# EAGLE library part 4XSPST_DIP_SW (library MOTO_LIB)
4 channels SPST DIP switch 100mA.
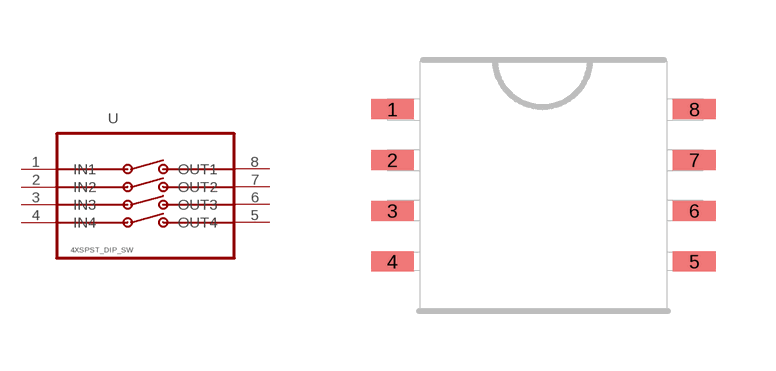
[diagram p2: symbol with the pads of 8PIN_DIP; footprint 8PIN_DIP]

Designator prefix U

## 4XSPST_DIP_SW (MPN: 1825140-2; SUPPLIER: TE CONNECTIVITY)  [8PIN_DIP]
1  IN1
2  IN2
3  IN3
4  IN4
5  OUT4
6  OUT3
7  OUT2
8  OUT1

## Footprint 8PIN_DIP (pad centres in mm)
DIP switch, 4 channel
smd 1.07 x 0.5: 1 -3.775,1.905; 2 -3.775,0.635; 3 -3.775,-0.636; 4 -3.775,-1.905; 5 3.775,-1.905; 6 3.775,-0.635; 7 3.775,0.635; 8 3.775,1.905